# Altium integrated library RC0603JR-071KL.IntLib: 1 symbol
Pins are listed as number, name and electrical type; pins without a type are passive.

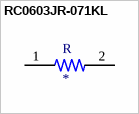
[diagram p0: symbol RC0603JR-071KL]

## RC0603JR-071KL
designator R
1 kOhms Â±5% 0.1W, 1/10W Chip Resistor 0603 _1608 Metric_ Moisture Resistant Thick Film; MP: RC0603JR-071KL; MF: Yageo; Package: 0603 Yageo; Value: *; SnapEDA_Link: https://www.snapeda.com/parts/RC0603JR-071KL/Yageo/view-part/106141/?ref=snap; Digi-Key_Purchase_URL: https://www.digikey.co.nz/product-detail/en/yageo/RC0603JR-071KL/311-1.0KGRCT-ND/729624?utm_source=snapeda&utm_medium=aggregator&utm_campaign=symbol; Digi-Key_Part_Number: 311-1.0KGRCT-ND
footprint RESC1607X60N
pins: 1, 2